# Altium footprint library SOT223-6.pcblib: 1 footprints
Each footprint in its own frame and in the unit in brackets; x right, y up, seen from the top. Pads: shape width x height; smd on the part's side, far side on the other; paste and mask are expansions set on the pad; w line width, h text height; cw(c..) or ccw(c..) is an arc to the next point about the centre after c.
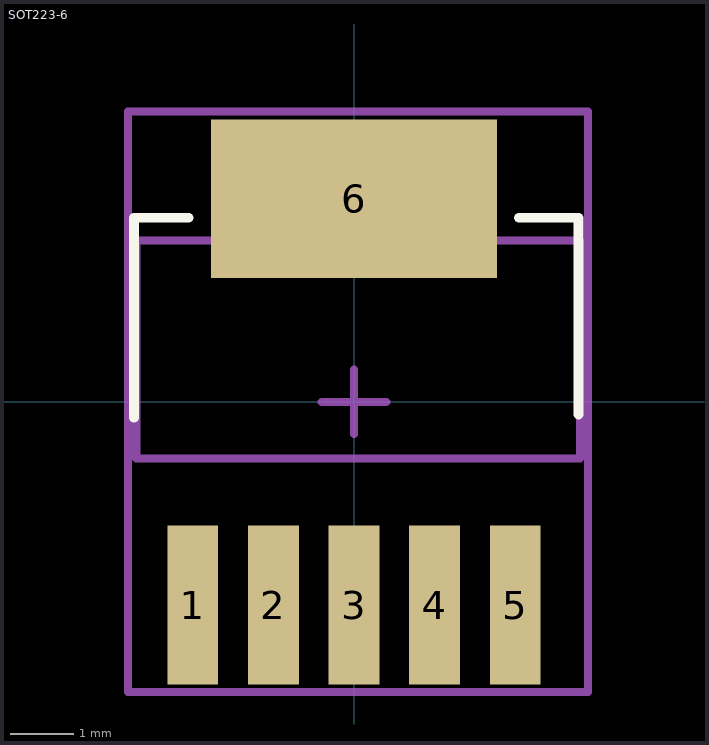
[diagram p0: the footprint, top view; thin cyan lines are the x and y axes]

## SOT223-6 [mm]
pads (6):
  rect 0.8x2.5 smd: 1(-2.54,-3.2) 2(-1.27,-3.2) 3(0,-3.2) 4(1.27,-3.2) 5(2.54,-3.2)
  rect 4.5x2.5 smd: 6(0,3.2)
Top Overlay:
  lines w0.152: -3.465,-0.25 -3.465,2.9 -2.601,2.9 ; 2.595,2.9 3.535,2.9 ; 3.535,-0.2 3.535,2.873
Mechanical 13:
  lines w0.127: -3.429,-0.889 -3.429,2.54 3.556,2.54 3.556,-0.889 -3.429,-0.889
Mechanical 15:
  lines w0.127: -0.508,0 0.508,0 ; 0,-0.508 0,0.508 ; -3.556,-4.572 -3.556,4.572 -3.429,4.572 3.683,4.572 3.683,-4.572 -3.556,-4.572
Mechanical 17:
  text "'.Designator'" at -3.175,0.381 h0.64
Mechanical 19:
  text "'.Comment'" at -3.175,0.381 h0.64
3D body "User Library-SOT-223-6.step": height 1.8, standoff 0, extent -3.275,-2.791 3.275,4.469